# EAGLE library part AT25128B/256B (library Strutz Electronic Industries)
Atmel SPI EEPROM for 128kB and 256kB
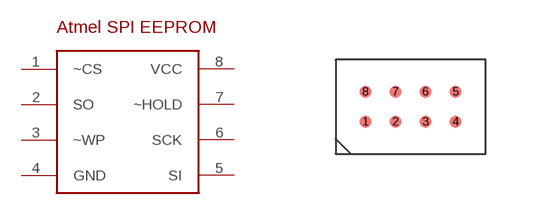
[diagram p31: symbol with the pads of 8VBGA; footprint 8VBGA]

Designator prefix -

## AT25128B/256B  [8VBGA]
1  ~CS
2  SO
3  ~WP
4  GND
5  SI
6  SCK
7  ~HOLD
8  VCC

## Footprint 8VBGA (pad centres in mm)
smd 0.3 x 0.3: 1 -1.125,-0.375; 2 -0.375,-0.375; 3 0.375,-0.375; 4 1.125,-0.375; 5 1.125,0.375; 6 0.375,0.375; 7 -0.375,0.375; 8 -1.125,0.375